# Altium footprint library PCB1.PcbLib: 19 footprints (part 2 of 2)
Each footprint in its own frame and in the unit in brackets; x right, y up, seen from the top. Pads: shape width x height; smd on the part's side, far side on the other; paste and mask are expansions set on the pad; w line width, h text height; cw(c..) or ccw(c..) is an arc to the next point about the centre after c.
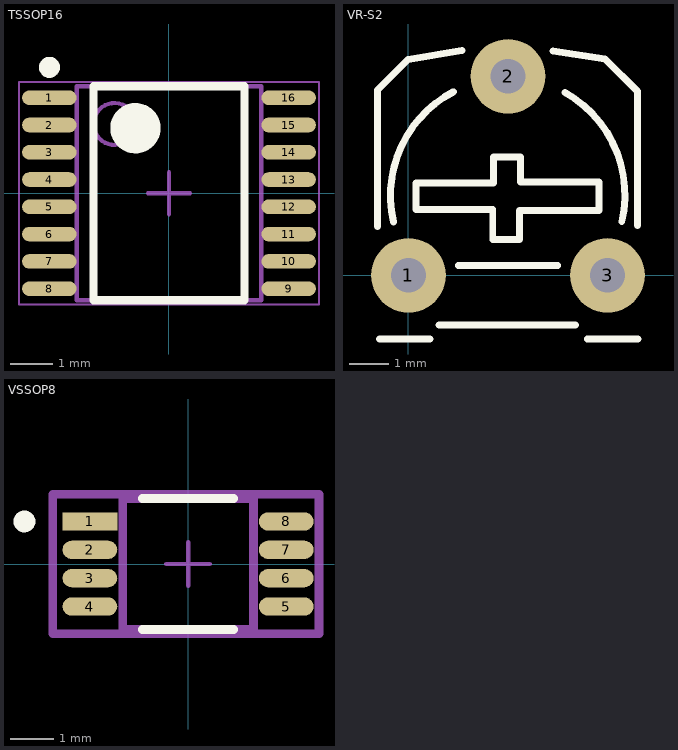
[diagram p1: the footprints below, top view; thin cyan lines are the x and y axes]

## TSSOP16 [mm] "TSSOP, 16-Leads, Body 5.10x4.40mm, Pitch 0.65mm, IPC High Density"
height 1.2
pads (16):
  oval 1.3x0.35 smd mask+0.076: 1(-2.85,2.275) 2(-2.85,1.625) 3(-2.85,0.975) 4(-2.85,0.325) 5(-2.85,-0.325) 6(-2.85,-0.975) 7(-2.85,-1.625) 8(-2.85,-2.275) 9(2.85,-2.275) 10(2.85,-1.625) 11(2.85,-0.975) 12(2.85,-0.325) 13(2.85,0.325) 14(2.85,0.975) 15(2.85,1.625) 16(2.85,2.275)
Top Overlay:
  circle w0.6: c-0.8,1.55 r0.3
  circle w0.25: c-2.85,3 r0.125
  lines w0.2: -1.8,-2.55 1.8,-2.55 1.8,2.55 -1.8,2.55 -1.8,-2.55
Mechanical 13:
  circle w0.1: c-1.3,1.65 r0.5
  lines w0.1: -2.2,-2.55 2.2,-2.55 2.2,2.55 -2.2,2.55 -2.2,-2.55
Mechanical 15:
  lines w0.05: -3.575,-2.65 3.575,-2.65 3.575,2.65 -3.575,2.65 -3.575,-2.65
  lines w0.1: -0.5,0 0.5,0 ; 0,-0.5 0,0.5
3D body "User Library-IPC SO.step": height 1.25, standoff 0, extent -3.228,-2.53 3.228,2.57

## VR-S2 [mil] "Resistor Variable"
height 200
pads (3):
  round 75 hole 35: 1(0,0) 2(100,200) 3(200,0)
Top Overlay:
  lines w7: -31,49 -31,186.34 -0.34,217 53.66,226 ; -29.34,-64 21.66,-64 ; -15.19,53.82 cw(c99.66,80) 45.27,184.49 ; 7.66,93 7.66,66 84.66,66 84.66,36 111.66,36 111.66,65 191.66,65 191.66,94 112.66,94 112.66,119 85.66,119 85.66,93 8.66,93 ; 30.66,-50 167.66,-50 ; 50,10 150,10 ; 145.06,225.4 197.7,217.3 230,185 230,50 ; 157.14,183.83 cw(c99.66,81) 214.32,53.98 ; 179.66,-64 230.66,-64
3D body "Basprov1213.step": height 298.65, standoff -136.39, extent -23.48,-64.36 231.64,219.1

## VSSOP8 [mm]
pads (8):
  rect 1.257x0.418 smd paste+0 mask+0: 1(-2.25,0.975)
  rrect100% 1.257x0.418 smd paste+0 mask+0: 2(-2.25,0.325) 3(-2.25,-0.325) 4(-2.25,-0.975) 5(2.25,-0.975) 6(2.25,-0.325) 7(2.25,0.325) 8(2.25,0.975)
Top Overlay:
  circle w0.25: c-3.75,0.975 r0.125
  lines w0.2: -1.048,-1.5 1.048,-1.5 ; -1.048,1.5 1.048,1.5
Top Courtyard:
  lines w0.2: -3.104,-1.6 -3.104,1.6 3,1.6 3,-1.6 -3.104,-1.6
Top Assembly:
  lines w0.2: -3.104,-1.6 -3.104,1.6 3,1.6 3,-1.6 -3.104,-1.6
Top 3D Body:
  lines w0.2: -1.5,-1.5 -1.5,1.5 1.5,1.5 1.5,-1.5 -1.5,-1.5
Top Component Center:
  lines w0.1: -0.5,0 0.5,0 ; 0,-0.5 0,0.5
3D body "IC_Texas_Instruments_TCA9803DGKR_eec.STEP": height 0.25, standoff 0, extent -2.779,-1.6 2.779,1.6